# Altium footprint library Main PCB.PcbLib: 35 footprints (part 2 of 3)
Each footprint in its own frame and in the unit in brackets; x right, y up, seen from the top. Pads: shape width x height; smd on the part's side, far side on the other; paste and mask are expansions set on the pad; w line width, h text height; cw(c..) or ccw(c..) is an arc to the next point about the centre after c.
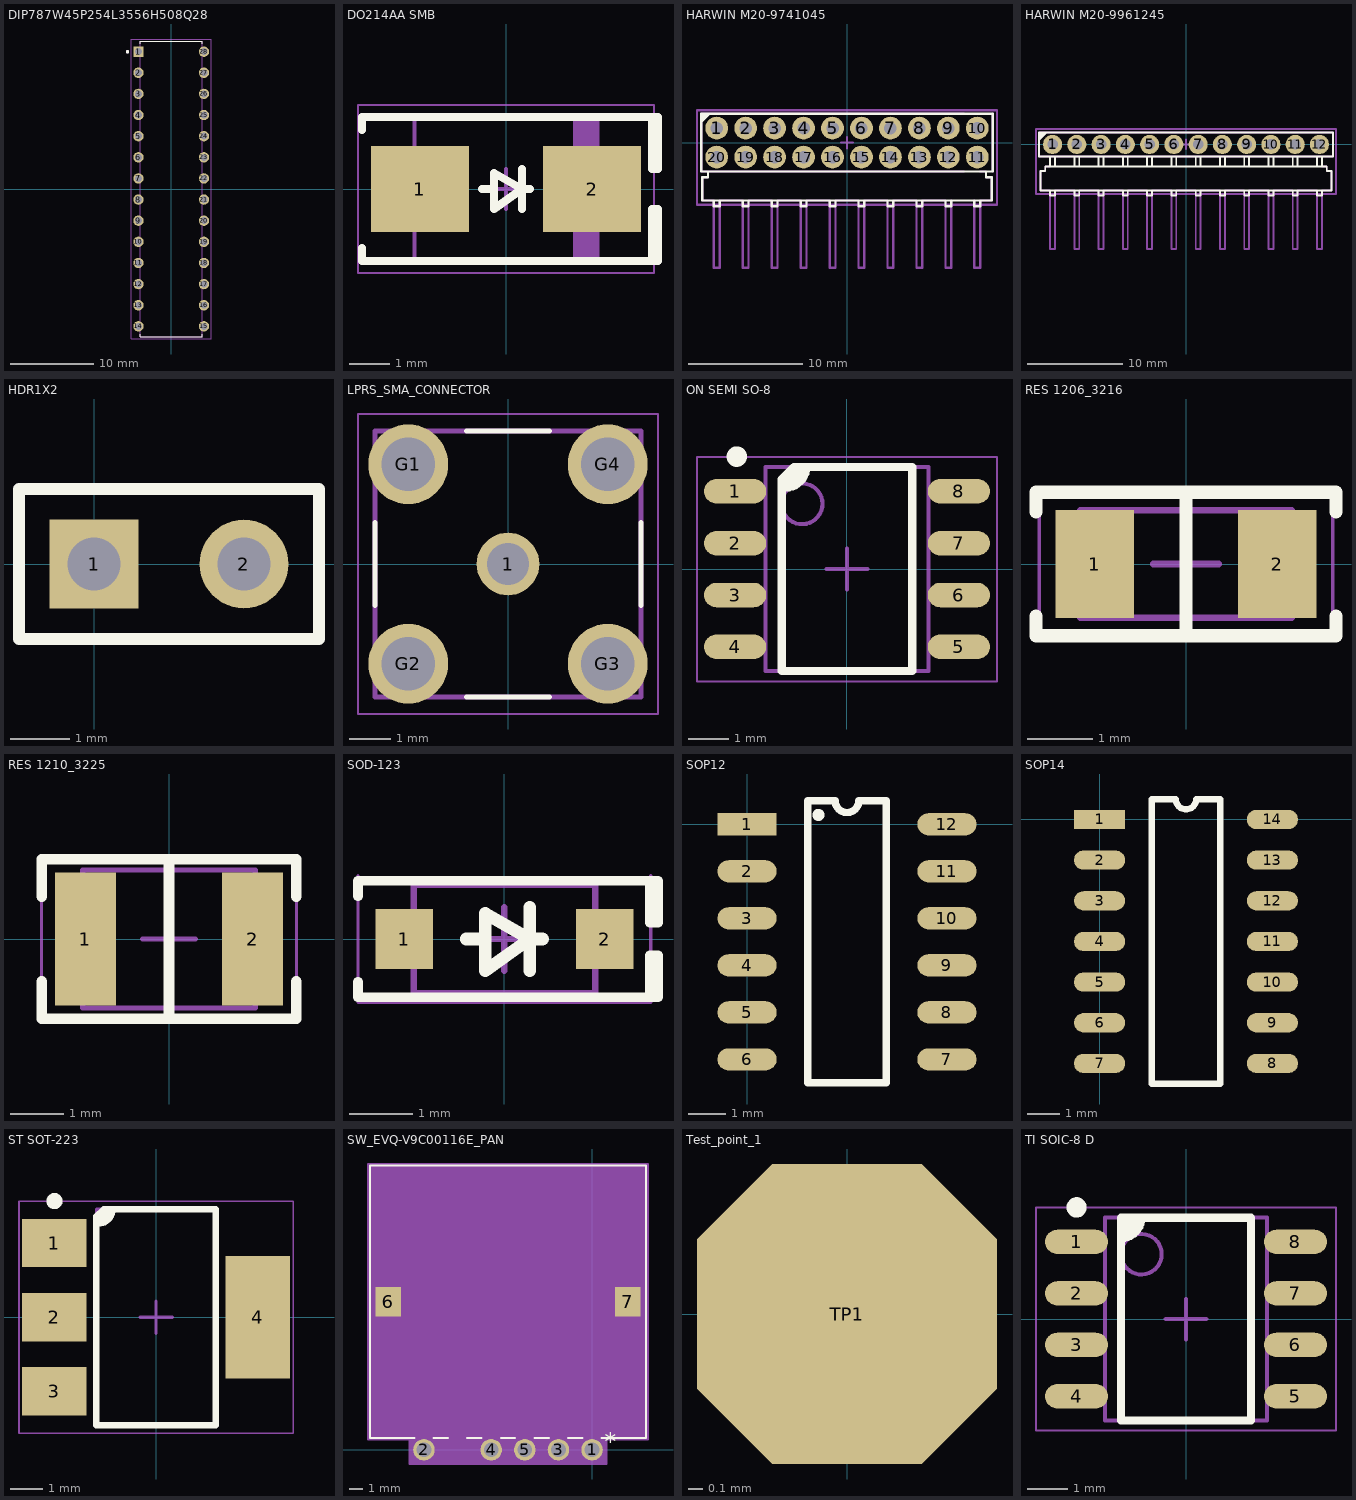
[diagram p1: the footprints below, top view; thin cyan lines are the x and y axes]

## DIP787W45P254L3556H508Q28 [mm]
height 1.3
pads (28):
  rect 1.25x1.25 / inner round 1.25 / far side rect 1.25x1.25 hole 0.83: 1(-3.937,16.51)
  round 1.25 hole 0.83: 2(-3.937,13.97) 3(-3.937,11.43) 4(-3.937,8.89) 5(-3.937,6.35) 6(-3.937,3.81) 7(-3.937,1.27) 8(-3.937,-1.27) 9(-3.937,-3.81) 10(-3.937,-6.35) 11(-3.937,-8.89) 12(-3.937,-11.43) 13(-3.937,-13.97) 14(-3.937,-16.51) 15(3.937,-16.51) 16(3.937,-13.97) 17(3.937,-11.43) 18(3.937,-8.89) 19(3.937,-6.35) 20(3.937,-3.81) 21(3.937,-1.27) 22(3.937,1.27) 23(3.937,3.81) 24(3.937,6.35) 25(3.937,8.89) 26(3.937,11.43) 27(3.937,13.97) 28(3.937,16.51)
Top Overlay:
  circle w0.2: c-5.25,16.5 r0.1
  lines w0.127: -3.75,-17.46 -3.75,-17.78 3.75,-17.78 3.75,-17.46 ; -3.75,17.46 -3.75,17.78 3.75,17.78 3.75,17.46
Mechanical 13:
  circle w0.2: c-5.25,16.5 r0.1
  lines w0.127: -3.75,-17.78 -3.75,17.78 3.75,17.78 3.75,-17.78 -3.75,-17.78
Mechanical 15:
  lines w0.05: -4.82,-18.03 -4.82,18.03 4.82,18.03 4.82,-18.03 -4.82,-18.03
3D body "step_temp.STEP": height 5.08, standoff -3.81, extent -4.064,-17.335 4.064,17.335

## DO214AA SMB [mm] "Molded Diode, 2-Leads, Body 4.31x3.62mm, IPC Medium Density"
height 2.44
pads (2):
  rect 2.45x2.15 smd: 1(-2.15,0) 2(2.15,0)
Top Overlay:
  lines w0.2: -3.6,-1.475 -3.6,-1.8 3.8,-1.8 3.8,-0.5 3.65,-0.5 3.65,-1.8 ; -3.6,1.475 -3.6,1.8 3.8,1.8 3.8,0.5 3.65,0.5 3.65,1.8 ; -0.6,0 -0.3,0 ; 0.4,-0.5 0.4,0.5 ; 0.6,0 0.4,0 ; 0.4,0 -0.3,0.4 -0.3,-0.5 0.4,0
Mechanical 13:
  rectangle: 1.67,-1.8 2.285,1.8
  lines w0.1: -2.285,-1.8 2.285,-1.8 2.285,1.8 -2.285,1.8 -2.285,-1.8
Mechanical 15:
  lines w0.05: -3.7,-2.1 3.7,-2.1 3.7,2.1 -3.7,2.1 -3.7,-2.1
  lines w0.1: -0.5,0 0.5,0 ; 0,-0.5 0,0.5
3D body "SMB.STEP": height 2.4, standoff 0, extent -2.6,-1.799 2.6,1.8

## HARWIN M20-9741045 [mm] "2.54mm DIL PC TAIL PIN HEADER ASSEMBLY"
height 2.54
pads (20):
  round 2 hole 1.1: 1(-11.43,1.27) 2(-8.89,1.27) 3(-6.35,1.27) 4(-3.81,1.27) 5(-1.27,1.27) 6(1.27,1.27) 7(3.81,1.27) 8(6.35,1.27) 9(8.89,1.27) 10(11.43,1.27) 11(11.43,-1.27) 12(8.89,-1.27) 13(6.35,-1.27) 14(3.81,-1.27) 15(1.27,-1.27) 16(-1.27,-1.27) 17(-3.81,-1.27) 18(-6.35,-1.27) 19(-8.89,-1.27) 20(-11.43,-1.27)
Top Overlay:
  region: -12.81,2.57 -12.81,1.67 -11.91,2.57
  lines w0.2: -12.192,-2.54 -12.192,-3.048 -12.7,-3.048 -12.7,-5.08 12.7,-5.08 12.7,-3.048 12.192,-3.048 12.192,-2.54 ; -11.684,-5.08 -11.684,-5.588 -11.176,-5.588 -11.176,-5.08 ; -9.144,-5.08 -9.144,-5.588 -8.636,-5.588 -8.636,-5.08 ; -6.604,-5.08 -6.604,-5.588 -6.096,-5.588 -6.096,-5.08 ; -4.064,-5.08 -4.064,-5.588 -3.556,-5.588 -3.556,-5.08 ; -1.524,-5.08 -1.524,-5.588 -1.016,-5.588 -1.016,-5.08 ; 1.016,-5.08 1.016,-5.588 1.524,-5.588 1.524,-5.08 ; 3.556,-5.08 3.556,-5.588 4.064,-5.588 4.064,-5.08 ; 6.096,-5.08 6.096,-5.588 6.604,-5.588 6.604,-5.08 ; 8.636,-5.08 8.636,-5.588 9.144,-5.588 9.144,-5.08 ; 11.176,-5.08 11.176,-5.588 11.684,-5.588 11.684,-5.08 ; -12.79,-2.54 12.79,-2.54 12.79,2.54 -12.79,2.54 -12.79,-2.54
Top Courtyard:
  lines w0.2: -13.16,-5.454 -13.16,2.83 13.16,2.83 13.16,-5.454 -13.16,-5.454
Top Assembly:
  lines w0.2: -11.684,-2.54 -12.192,-2.54 -12.192,-3.048 -12.7,-3.048 -12.7,-5.08 -11.684,-5.08 -11.684,-10.97 -11.176,-10.97 -11.176,-5.08 -9.144,-5.08 -9.144,-10.97 -8.636,-10.97 -8.636,-5.08 -6.604,-5.08 -6.604,-10.97 -6.096,-10.97 -6.096,-5.08 -4.064,-5.08 -4.064,-10.97 -3.556,-10.97 -3.556,-5.08 -1.524,-5.08 -1.524,-10.97 -1.016,-10.97 -1.016,-5.08 1.016,-5.08 1.016,-10.97 1.524,-10.97 1.524,-5.08 3.556,-5.08 3.556,-10.97 4.064,-10.97 4.064,-5.08 6.096,-5.08 6.096,-10.97 6.604,-10.97 6.604,-5.08 8.636,-5.08 8.636,-10.97 9.144,-10.97 9.144,-5.08 ; -0.5,0 0.5,0 ; 0,-0.5 0,0.5 ; 10.25,-2.54 -12.79,-2.54 -12.79,2.54 10.25,2.54 ; 11.176,-5.08 11.176,-10.97 11.684,-10.97 11.684,-5.08 12.7,-5.08 12.7,-3.048 12.192,-3.048 12.192,-2.54 11.684,-2.54 ; 12.79,-2.54 12.79,2.54
3D body "M20-7831042.step": height 5, standoff -3.04, extent -12.7,-10.97 12.7,1.59

## HARWIN M20-9961245 [mm] "2.54mm DIL PC TAIL PIN HEADER ASSEMBLY"
height 2.54
pads (12):
  round 2 hole 1.1: 1(-13.97,0) 2(-11.43,0) 3(-8.89,0) 4(-6.35,0) 5(-3.81,0) 6(-1.27,0) 7(1.27,0) 8(3.81,0) 9(6.35,0) 10(8.89,0) 11(11.43,0) 12(13.97,0)
Top Overlay:
  region: -15.35,1.3 -15.35,0.4 -14.45,1.3
  lines w0.2: -15.4,1.27 -15.4,-1.27 15.4,-1.27 15.4,1.27 -15.35,1.27 ; -14.224,-4.826 -14.224,-5.334 -13.716,-5.334 -13.716,-4.826 ; -14.224,-2.286 -14.224,-1.27 ; -13.716,-2.286 -13.716,-1.27 ; -11.684,-4.826 -11.684,-5.334 -11.176,-5.334 -11.176,-4.826 ; -11.684,-2.286 -11.684,-1.27 ; -11.176,-2.286 -11.176,-1.27 ; -9.144,-4.826 -9.144,-5.334 -8.636,-5.334 -8.636,-4.826 ; -9.144,-2.286 -9.144,-1.27 ; -8.636,-2.286 -8.636,-1.27 ; -6.604,-4.826 -6.604,-5.334 -6.096,-5.334 -6.096,-4.826 ; -6.604,-2.286 -6.604,-1.27 ; -6.096,-2.286 -6.096,-1.27 ; -4.064,-4.826 -4.064,-5.334 -3.556,-5.334 -3.556,-4.826 ; -4.064,-2.286 -4.064,-1.27 ; -3.556,-2.286 -3.556,-1.27 ; -1.524,-4.826 -1.524,-5.334 -1.016,-5.334 -1.016,-4.826 ; -1.524,-2.286 -1.524,-1.27 ; -1.016,-2.286 -1.016,-1.27 ; 1.016,-4.826 1.016,-5.334 1.524,-5.334 1.524,-4.826 ; 1.016,-2.286 1.016,-1.27 ; 1.524,-2.286 1.524,-1.27 ; 3.556,-4.826 3.556,-5.334 4.064,-5.334 4.064,-4.826 ; 3.556,-2.286 3.556,-1.27 ; 4.064,-2.286 4.064,-1.27 ; 6.096,-4.826 6.096,-5.334 6.604,-5.334 6.604,-4.826 ; 6.096,-2.286 6.096,-1.27 ; 6.604,-2.286 6.604,-1.27 ; 8.636,-4.826 8.636,-5.334 9.144,-5.334 9.144,-4.826 ; 8.636,-2.286 8.636,-1.27 ; 9.144,-2.286 9.144,-1.27 ; 11.176,-4.826 11.176,-5.334 11.684,-5.334 11.684,-4.826 ; 11.176,-2.286 11.176,-1.27 ; 11.684,-2.286 11.684,-1.27 ; 13.716,-4.826 13.716,-5.334 14.224,-5.334 14.224,-4.826 ; 13.716,-2.286 13.716,-1.27 ; 14.224,-2.286 14.224,-1.27 ; -15.24,-4.826 15.24,-4.826 15.24,-2.794 14.732,-2.794 14.732,-2.286 -14.732,-2.286 -14.732,-2.794 -15.24,-2.794 -15.24,-4.826
Top Courtyard:
  lines w0.2: -15.7,-5.2 -15.7,1.6 15.7,1.6 15.7,-5.2 -15.7,-5.2
Top Assembly:
  lines w0.2: -14.224,-1.27 -14.224,-2.286 -14.732,-2.286 -14.732,-2.794 -15.24,-2.794 -15.24,-4.826 -14.224,-4.826 -14.224,-10.922 -13.716,-10.922 -13.716,-4.826 -11.684,-4.826 -11.684,-10.922 -11.176,-10.922 -11.176,-4.826 -9.144,-4.826 -9.144,-10.922 -8.636,-10.922 -8.636,-4.826 -6.604,-4.826 -6.604,-10.922 -6.096,-10.922 -6.096,-4.826 -4.064,-4.826 -4.064,-10.922 -3.556,-10.922 -3.556,-4.826 -1.524,-4.826 -1.524,-10.922 -1.016,-10.922 -1.016,-4.826 1.016,-4.826 1.016,-10.922 1.524,-10.922 1.524,-4.826 3.556,-4.826 3.556,-10.922 4.064,-10.922 4.064,-4.826 6.096,-4.826 6.096,-10.922 6.604,-10.922 6.604,-4.826 8.636,-4.826 8.636,-10.922 9.144,-10.922 9.144,-4.826 11.176,-4.826 11.176,-10.922 11.684,-10.922 11.684,-4.826 13.716,-4.826 13.716,-10.922 14.224,-10.922 14.224,-4.826 15.24,-4.826 15.24,-2.794 14.732,-2.794 14.732,-2.286 14.224,-2.286 14.224,-1.27 ; -0.5,0 0.5,0 ; 0,-0.5 0,0.5 ; -15.4,-1.27 15.4,-1.27 15.4,1.27 -15.4,1.27 -15.4,-1.27
3D body "HARWIN M20-9961245.step": height 2.54, standoff -3, extent -15.24,-10.9 15.24,0.32

## HDR1X2 [mm] "Connector; Header; 2 Position"
height 1.3
pads (2):
  rect 1.5x1.5 hole 0.9: 1(0,0)
  round 1.5 hole 0.9: 2(2.54,0)
Top Overlay:
  lines w0.2: -1.27,-1.27 -1.27,1.27 3.81,1.27 3.81,-1.27 -1.27,-1.27

## LPRS_SMA_CONNECTOR [mm]
height 8.3
pads (5):
  round 1.508 hole 1: 1(0,0)
  round 1.92 hole 1.28: G1(-2.4,2.4) G2(-2.4,-2.4) G3(2.4,-2.4) G4(2.4,2.4)
Top Overlay:
  lines w0.127: -3.2,-1 -3.2,1 ; -1,-3.2 1,-3.2 ; -1,3.2 1,3.2 ; 3.2,-1 3.2,1
Mechanical 13:
  lines w0.127: -3.2,-3.2 -3.2,3.2 3.2,3.2 3.2,-3.2 -3.2,-3.2
Mechanical 15:
  lines w0.05: -3.61,-3.61 -3.61,3.61 3.61,3.61 3.61,-3.61 -3.61,-3.61
3D body "step_temp.STEP": height 13.6, standoff 0, extent -3.25,-3.25 3.25,3.25

## ON SEMI SO-8 [mm] "SOIC, 8-Leads, Body 4.90x3.90mm, Pitch 1.27mm, IPC Medium Density"
height 1.75
pads (8):
  oval 1.52x0.6 smd: 1(-2.74,1.905) 2(-2.74,0.635) 3(-2.74,-0.635) 4(-2.74,-1.905) 5(2.74,-1.905) 6(2.74,-0.635) 7(2.74,0.635) 8(2.74,1.905)
Top Overlay:
  circle w0.25: c-2.7,2.755 r0.125
  region: -1.3,2.5 -1,2.5 -1,2.401 -1.076,2.217 -1.217,2.076 -1.401,2 -1.5,2 -1.6,2 -1.6,2.2
  lines w0.2: -1.6,2 -1.5,2 ccw(c-1.5,2.5) -1,2.5 ; -1.6,-2.5 1.6,-2.5 1.6,2.5 -1.3,2.5 -1.6,2.2 -1.6,-2.5
Mechanical 13:
  circle w0.1: c-1.1,1.6 r0.5
  lines w0.1: -2,-2.5 -2,2.5 2,2.5 2,-2.5 -2,-2.5
Mechanical 15:
  lines w0.05: -3.675,-2.75 -3.675,2.75 3.675,2.75 3.675,-2.75 -3.675,-2.75
  lines w0.1: -0.5,0 0.5,0 ; 0,-0.5 0,0.5
3D body "SO-8.STEP": height 1.5, standoff 0, extent -3.014,-2.45 3.014,2.45

## RES 1206_3216 [mm] "Chip Resistor, 2-Leads, Body 3.13x1.55mm, IPC Medium Density"
height 0.7
pads (2):
  rect 1.2x1.65 smd: 1(-1.4,0) 2(1.4,0)
Top Overlay:
  lines w0.2: -2.3,-0.8 -2.3,-1.1 2.3,-1.1 2.3,-0.8 ; -2.3,0.8 -2.3,1.1 2.3,1.1 2.3,0.8 ; 0,-1.1 0,1.1
Mechanical 13:
  lines w0.1: -1.625,-0.825 1.625,-0.825 1.625,0.825 -1.625,0.825 -1.625,-0.825
Mechanical 15:
  lines w0.05: -2.25,-1.1 2.25,-1.1 2.25,1.1 -2.25,1.1 -2.25,-1.1
  lines w0.1: -0.5,0 0.5,0 ; 0,-0.5 0,0.5
3D body "1206 resistor.STEP": height 0.6, standoff 0, extent -1.6,-0.8 1.6,0.8

## RES 1210_3225 [mm] "Chip Resistor, 2-Leads, Body 3.1x2.6mm, IPC Medium Density"
height 0.65
pads (2):
  rect 1.15x2.5 smd: 1(-1.575,0) 2(1.575,0)
Top Overlay:
  lines w0.2: -2.4,-0.8 -2.4,-1.5 2.4,-1.5 2.4,-0.8 ; -2.4,0.8 -2.4,1.5 2.4,1.5 2.4,0.8 ; 0,-1.5 0,1.5
Mechanical 13:
  lines w0.1: -1.625,-1.3 -1.625,1.3 1.625,1.3 1.625,-1.3 -1.625,-1.3
Mechanical 15:
  lines w0.05: -2.4,-1.5 -2.4,1.5 2.4,1.5 2.4,-1.5 -2.4,-1.5
  lines w0.1: -0.5,0 0.5,0 ; 0,-0.5 0,0.5
3D body "RES - 1210.step": height 0.7, standoff 0, extent -1.6,-1.25 1.6,1.25

## SOD-123 [mm] "SOD, 2-Leads, Body 1.55x3.70mm, IPC Medium Density"
height 1.35
pads (2):
  rect 0.9x0.95 smd: 1(-1.575,0) 2(1.575,0)
Top Overlay:
  lines w0.15: -2.3,-0.675 -2.3,-0.916 2.286,-0.916 ; -2.3,0.675 -2.3,0.916 2.286,0.916 ; 2.286,-0.916 2.286,-0.254 2.413,-0.254 2.413,-0.916 2.286,-0.916 ; 2.286,0.916 2.413,0.916 2.413,0.254 2.286,0.254 2.286,0.916
  lines w0.2: -0.6,0 -0.3,0 ; 0.4,-0.5 0.4,0.5 ; 0.6,0 0.4,0 ; 0.4,0 -0.3,-0.5 -0.3,0.4 0.4,0
Mechanical 13:
  lines w0.1: -1.425,-0.85 1.425,-0.85 1.425,0.85 -1.425,0.85 -1.425,-0.85
Mechanical 15:
  lines w0.05: -2.3,0.9 2.3,0.9 ; -2.3,1 -2.3,-1 2.3,-1 2.3,1
  lines w0.1: -0.5,0 0.5,0 ; 0,-0.5 0,0.5
3D body "SOD-123.STEP": height 1.35, standoff 0, extent -1.864,-0.775 1.864,0.775

## SOP12 [mm]
pads (12):
  rect 1.6x0.6 smd: 1(0,0)
  oval 1.6x0.6 smd: 2(0,-1.27) 3(0,-2.54) 4(0,-3.81) 5(0,-5.08) 6(0,-6.35) 7(5.4,-6.35) 8(5.4,-5.08) 9(5.4,-3.81) 10(5.4,-2.54) 11(5.4,-1.27) 12(5.4,0)
Top Overlay:
  circle w0.254: c1.93,0.254 r0.036
  lines w0.2: 1.635,-6.985 3.765,-6.985 3.765,0.635 3.017,0.635 cw(c2.7,0.635) 2.382,0.635 1.635,0.635 1.635,-6.985

## SOP14 [mm]
pads (14):
  rect 1.6x0.6 smd: 1(0,0)
  oval 1.6x0.6 smd: 2(0,-1.27) 3(0,-2.54) 4(0,-3.81) 5(0,-5.08) 6(0,-6.35) 7(0,-7.62) 8(5.4,-7.62) 9(5.4,-6.35) 10(5.4,-5.08) 11(5.4,-3.81) 12(5.4,-2.54) 13(5.4,-1.27) 14(5.4,0)
Top Overlay:
  lines w0.2: 1.635,-8.255 3.765,-8.255 3.765,0.635 3.017,0.635 cw(c2.7,0.635) 2.382,0.635 1.635,0.635 1.635,-8.255

## ST SOT-223 [mm] "SOT223, 4-Leads, Body 6.50x7.00mm (avg), Pitch 2.30mm, IPC Medium Density"
height 1.8
pads (4):
  rect 2x1.5 smd: 1(-3.15,2.3) 2(-3.15,0) 3(-3.15,-2.3)
  rect 2x3.8 smd: 4(3.15,0)
Top Overlay:
  circle w0.25: c-3.15,3.6 r0.125
  region: -1.65,3.275 -1.35,3.35 -1.35,3.2 -1.65,2.9 -1.85,2.9
  lines w0.2: -1.85,2.9 -1.8,2.9 ccw(c-1.8,3.35) -1.35,3.35 ; -1.85,-3.35 1.85,-3.35 1.85,3.35 -1.625,3.35 -1.85,3.125 -1.85,-3.35
Mechanical 13:
  lines w0.1: -1.85,-3.35 -1.85,3.35 1.85,3.35 1.85,-3.35 -1.85,-3.35
Mechanical 15:
  lines w0.05: -4.25,-3.6 -4.25,3.6 4.25,3.6 4.25,-3.6 -4.25,-3.6
  lines w0.1: -0.5,0 0.5,0 ; 0,-0.5 0,0.5
3D body "SOT-223.STEP": height 1.8, standoff 0, extent -3.516,-3.25 3.5,3.25

## SW_EVQ-V9C00116E_PAN [mil]
height 51.18
pads (7):
  round 63 / inner round 60 / far side round 63 hole 43 paste-31.5 mask+0: 1(0,0) 2(-492.13,0) 3(-98.43,0) 4(-295.28,0) 5(-196.85,0)
  rect 75x87 smd paste-43.5 mask-43.5: 6(-596.46,433.07) 7(104.33,433.07)
Top Overlay:
  lines w6: -520.31,34.57 -650.56,34.57 -650.56,831.57 158.44,831.57 158.44,34.57 28.18,34.57 ; -463.95,34.57 -421.88,34.57 ; -365.52,34.57 -323.45,34.57 ; -267.1,34.57 -225.03,34.57 ; -168.67,34.57 -126.6,34.57 ; -70.25,34.57 -28.18,34.57
  text "*" at 36.71,0 h50
Mechanical 13:
  lines w1: -645.56,39.57 153.44,39.57 153.44,826.57 -645.56,826.57 -645.56,39.57
  text "*" at 36.71,-50 h50
Mechanical 15:
  region: -533.63,-41.5 41.5,-41.5 41.5,29.57 163.44,29.57 163.44,836.57 -655.56,836.57 -655.56,29.57 -533.63,29.57
  lines w6: -655.56,29.57 -655.56,836.57 163.44,836.57 163.44,29.57 41.5,29.57 41.5,-41.5 -533.63,-41.5 -533.63,29.57 -655.56,29.57

## Test_point_1 [mil] "TP_1"
pads (1):
  oct 80x80 smd: TP1(0,0)

## TI SOIC-8 D [mm] "SOP, 8-Leads, Body 4.90x3.90mm, Pitch 1.27mm, IPC Medium Density"
height 1.75
pads (8):
  oval 1.55x0.6 smd: 1(-2.7,1.905) 2(-2.7,0.635) 3(-2.7,-0.635) 4(-2.7,-1.905) 5(2.7,-1.905) 6(2.7,-0.635) 7(2.7,0.635) 8(2.7,1.905)
Top Overlay:
  circle w0.25: c-2.7,2.755 r0.125
  region: -1.6,2.5 -1.6,2 -1.4,2 -1.1,2.3 -1.1,2.5
  lines w0.2: -1.6,2 ccw(c-1.6,2.5) -1.1,2.5 ; -1.6,-2.5 -1.6,2.5 1.6,2.5 1.6,-2.5 -1.6,-2.5
Mechanical 13:
  circle w0.1: c-1.1,1.6 r0.5
  lines w0.1: -2,-2.5 -2,2.5 2,2.5 2,-2.5 -2,-2.5
Mechanical 15:
  lines w0.05: -3.7,-2.75 -3.7,2.75 3.7,2.75 3.7,-2.75 -3.7,-2.75
  lines w0.1: -0.5,0 0.5,0 ; 0,-0.5 0,0.5
3D body "SO-8.STEP": height 1.5, standoff 0, extent -3.014,-2.45 3.014,2.45